# EAGLE library part DB9-* (library LoganSmith-Connectors)
DB-9 connector - RS232, RS485, CAN, general use
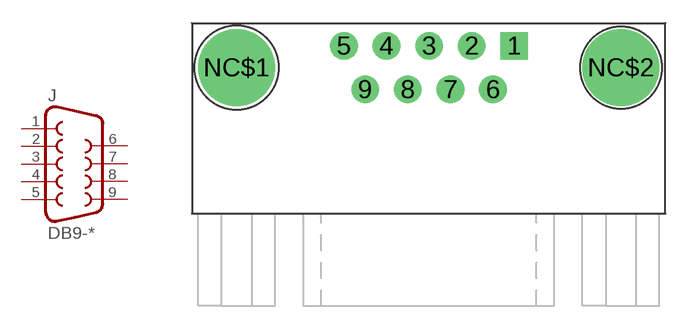
[diagram p3: symbol with the pads of DB9-R90; footprint DB9-R90]

Designator prefix J

## DB9-R90-F (DESC: D-Sub female, right-angle, 9 pos, gold; DIGIKEY_OC: A35107-ND; MFR: TE Connectivity; MPN: 1734354-1; VALUE: DB9)  [DB9-R90]
1  1  pas
2  2  pas
3  3  pas
4  4  pas
5  5  pas
6  6  pas
7  7  pas
8  8  pas
9  9  pas

## Footprint DB9-R90 (pad centres in mm)
TE Connectivity 1734354-1 footprint and silk. Datasheet <file:///C:/Users/User/Downloads/ENG_CD_1734354_A1.pdf>
drill 1.09 pad 1.8 square: 1 18.06,1.42
drill 1.09 pad 1.8: 2 15.29,1.42; 3 12.52,1.42; 4 9.75,1.42; 5 6.98,1.42; 6 16.675,-1.42; 7 13.905,-1.42; 8 11.135,-1.42; 9 8.365,-1.42
drill 3.18 pad 5: NC$1 0,0; NC$2 24.99,0